# Altium schematic symbol library solenoid_maker.SchLib: 7 symbols
Pins are listed as number, name and electrical type; pins without a type are passive.

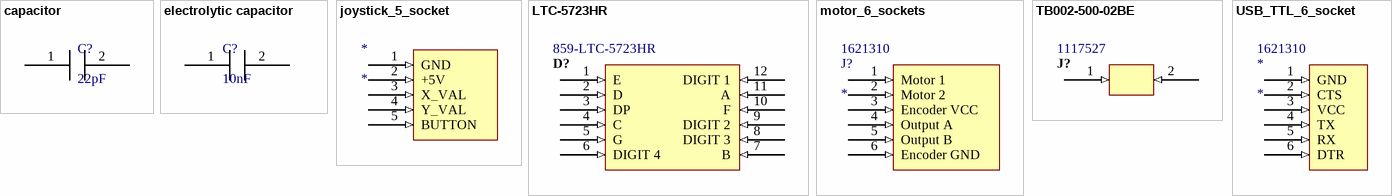
[diagram p0: symbols capacitor to USB_TTL_6_socket]

## capacitor
designator C?, comment 22pF
footprint Ceramic_Capacitor
pins: 1, 2

## electrolytic capacitor
designator C?, comment 10nF
footprint electrolytic_capacitor
footprint electrolytic_capacitor
pins: 1, 2

## joystick_5_socket
designator *
pins: 1 GND (in), 2 +5V (in), 3 X_VAL (in), 4 Y_VAL (in), 5 BUTTON (in)

## LTC-5723HR
designator D?, comment Supplier Part Number 1: 859-LTC-5723HR  (hidden comment: 4 digit display)
Displays Segmented Panel 4DIGIT 32LED Hi-Eff. Red CC 12-Pin DIP; Manufacturer: Vishay Lite-On; Manufacturer Part Number: LTC-5723HR; Operating Supply Voltage: 2V; Wavelength: 623nm; Forward Current: 20mA; Element Configuration: Common Cathode; Test Current: 10mA; Power Dissipation: 75mW; Number of Elements: 32; Reverse Voltage: 5V; Viewing Area (height): 14.2mm; Viewing Area Length: 8.1mm; Supplier 1: Mouser; RoHS: Yes; Category: LED Displays; Stock 1: 897; Pricing 1: 1=2.97000, 10=2.09000, 50=2.09000, 100=1.71000, 1000=1.32000, 10000=1.25000 (USD); Mount: Through Hole; Case/Package: DIP; Number of Pins: 12; Min Operating Temperature: -35°C; Max Operating Temperature: 85°C; Package Quantity: 10; Illumination Color: Red; Forward Voltage: 2V; Packaging: Rail/Tube; Dominant Wavelength: 623nm; Display Type: Segment; Power Consumption: 75mW; Length: 50.3mm; Depth: 19mm; RoHS Compliant: Yes; ComponentLink1URL: https://datasheet.ciiva.com/6355/s-110-c5723hr-6355372.pdf?src-supplier=Digi-Key; ComponentLink1Description: https://datasheet.ciiva.com/6355/s-110-c5723hr-6355372.pdf?src-supplier=Digi-Key
footprint DIP12
pins: 1 E (in), 2 D (in), 3 DP (in), 4 C (in), 5 G (in), 6 DIGIT 4 (in), 7 B (in), 8 DIGIT 3 (in), 9 DIGIT 2 (in), 10 F (in), 11 A (in), 12 DIGIT 1 (in)

## motor_6_sockets
designator J?  Supplier Part Number 1: 1621310
THT Angled Socket Header WR-PHD, Pitch 2.54 mm, Dual Row, 64 pins; Manufacturer: Wurth Electronics; Manufacturer Part Number: 613064243121; Current Rating: 3A; Number of Positions: 64; Gender: Receptacle; Voltage Rating: 250V; Insulation Resistance: 1GR; Insulation: Insulated; Pitch: 2.54mm; Row Spacing: 0.1inch; Supplier 1: Rs; RoHS: Yes; Category: Headers and Wire Housings; Stock 1: 88; Pricing 1: 40=5.25000, 200=4.72500 (AUD); Mount: Through Hole; Contact Material: Copper Alloy,Copper; Contact Plating: Gold; Color: Black; Housing Material: PBT; Contact Finish - Mating: GOLD; Insulation Color: Black; Insulation Material: Nylon; Contact Shape: Square; Min Operating Temperature: -40°C; Max Operating Temperature: 105°C; Number of Rows: 2; Packaging: Tray; Package Quantity: 60; Termination: Through Hole; Number of Contacts: 64; Connector Type: Header; Series: WR-PHD; Contact Type: Forked; Fastening Type: Pull; Contact Gender: Female; Voltage Rating (AC): 250V; Length: 81.78mm; Width: 163.06mm; Height: 8.5mm; RoHS Compliant: Yes; Flammability Rating: UL94 V-0; ComponentLink1URL: http://www.farnell.com/datasheets/1442177.pdf?src-supplier=Farnell; ComponentLink1Description: http://www.farnell.com/datasheets/1442177.pdf?src-supplier=Farnell; ComponentLink2URL: http://www.mouser.com/ds/2/445/6130xx243121-537798.pdf?src-supplier=Mouser; ComponentLink2Description: http://www.mouser.com/ds/2/445/6130xx243121-537798.pdf?src-supplier=Mouser; ComponentLink3URL: http://www.produktinfo.conrad.com/datenblaetter/1000000-1099999/001088203-da-01-en-WR_PHD__BUCHSENLEISTE___613064243121.pdf?src-supplier=Conrad; ComponentLink3Description: http://www.produktinfo.conrad.com/datenblaetter/1000000-1099999/001088203-da-01-en-WR_PHD__BUCHSENLEISTE___613064243121.pdf?src-supplier=Conrad; ComponentLink4URL: http://www.farnell.com/datasheets/1442177.pdf?src-supplier=Element14; ComponentLink4Description: http://www.farnell.com/datasheets/1442177.pdf?src-supplier=Element14; ComponentLink5URL: https://katalog.we-online.de/em/datasheet/6130xx243121.pdf?src-supplier=Digi-Key; ComponentLink5Description: https://katalog.we-online.de/em/datasheet/6130xx243121.pdf?src-supplier=Digi-Key
pins: 1 Motor 1 (in), 2 Motor 2 (in), 3 Encoder VCC (in), 4 Output A (in), 5 Output B (in), 6 Encoder GND (in)

## TB002-500-02BE
designator J?, comment Supplier Part Number 1: 1117527  (hidden comment: screw terminal)
2~24 Poles, Screw Type, Horizontal, 5.0 Pitch, 22~12 (AWG), Terminal Block Connector; Manufacturer: CUI; Manufacturer Part Number: TB002-500-02BE; Supplier 1: Future Electronics; RoHS: Yes; RoHS Compliant: Yes
pins: 1 (in), 2 (in)

## USB_TTL_6_socket
designator *  Supplier Part Number 1: 1621310
Supplier 1: Rs
pins: 1 GND (in), 2 CTS (in), 3 VCC (in), 4 TX (in), 5 RX (in), 6 DTR (in)